# EAGLE library part 20R-JMCS-G-TF (library JST-JMC-)
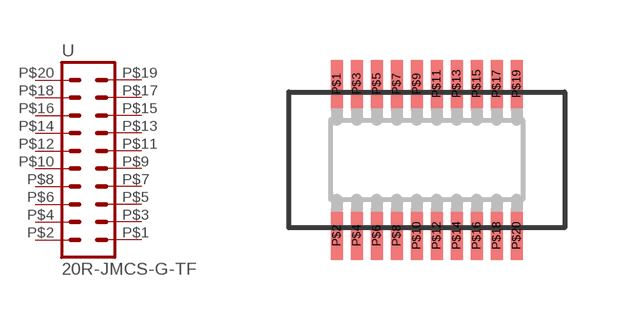
[diagram p1: symbol with the pads of 20R-JMCS-G-TF; footprint 20R-JMCS-G-TF]

Designator prefix -

## 20R-JMCS-G-TF  [20R-JMCS-G-TF]
P$1  1  pas
P$2  2  pas
P$3  3  pas
P$4  4  pas
P$5  5  pas
P$6  6  pas
P$7  7  pas
P$8  8  pas
P$9  9  pas
P$10  10  pas
P$11  11  pas
P$12  12  pas
P$13  13  pas
P$14  14  pas
P$15  15  pas
P$16  16  pas
P$17  17  pas
P$18  18  pas
P$19  19  pas
P$20  20  pas

## Footprint 20R-JMCS-G-TF (pad centres in mm)
smd 0.3 x 1.2: P$1 -2.25,1.9; P$2 -2.25,-1.9; P$3 -1.75,1.9; P$4 -1.75,-1.9; P$5 -1.25,1.9; P$6 -1.25,-1.9; P$7 -0.75,1.9; P$8 -0.75,-1.9; P$9 -0.25,1.9; P$10 -0.25,-1.9; P$11 0.25,1.9; P$12 0.25,-1.9; P$13 0.75,1.9; P$14 0.75,-1.9; P$15 1.25,1.9; P$16 1.25,-1.9; P$17 1.75,1.9; P$18 1.75,-1.9; P$19 2.25,1.9; P$20 2.25,-1.9